# EAGLE library part NRF51-01 (library lio)
nRF51822 40-pin module http://item.taobao.com/item.htm?spm=a1z09.2.9.34.wwrp4G&id=44210242098&_u=8511fe9f467
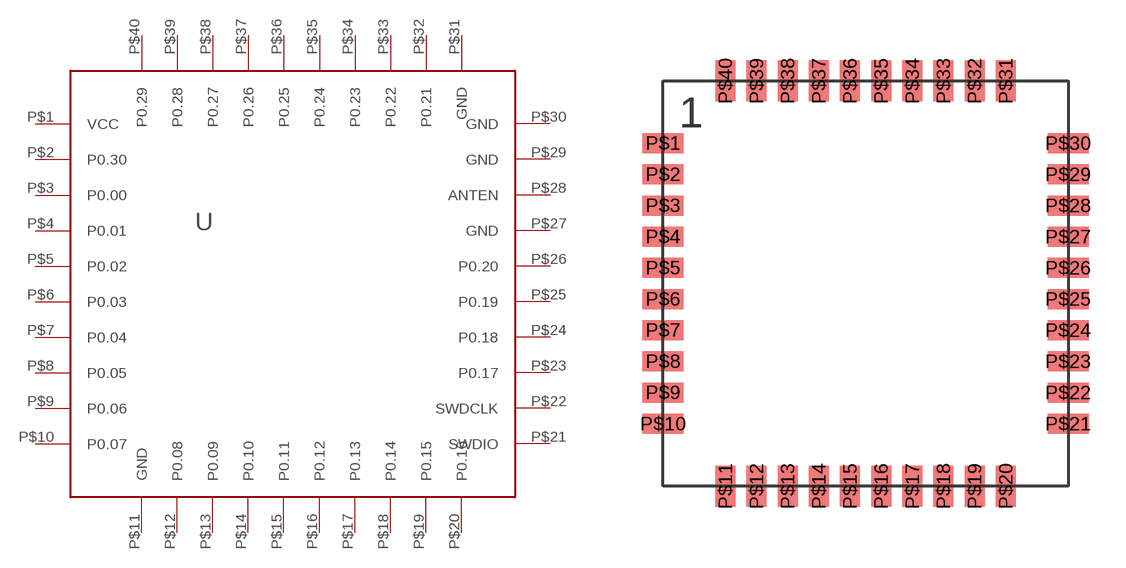
[diagram p11: symbol with the pads of QFN40; footprint QFN40]

Designator prefix -

## NRF51-01  [QFN40]
P$1  VCC  pwr
P$2  P0.30
P$3  P0.00
P$4  P0.01
P$5  P0.02
P$6  P0.03
P$7  P0.04
P$8  P0.05
P$9  P0.06
P$10  P0.07
P$11  GND  pwr
P$12  P0.08
P$13  P0.09
P$14  P0.10
P$15  P0.11
P$16  P0.12
P$17  P0.13
P$18  P0.14
P$19  P0.15
P$20  P0.16
P$21  SWDIO
P$22  SWDCLK
P$23  P0.17
P$24  P0.18
P$25  P0.19
P$26  P0.20
P$27  GND  pwr
P$28  ANTEN
P$29  GND  pwr
P$30  GND  pwr
P$31  GND  pwr
P$32  P0.21
P$33  P0.22
P$34  P0.23
P$35  P0.24
P$36  P0.25
P$37  P0.26
P$38  P0.27
P$39  P0.28
P$40  P0.29

## Footprint QFN40 (pad centres in mm)
smd 1.676 x 0.813: P$1 -8.255,5.715; P$2 -8.255,4.445; P$3 -8.255,3.175; P$4 -8.255,1.905; P$5 -8.255,0.635; P$6 -8.255,-0.635; P$7 -8.255,-1.905; P$8 -8.255,-3.175; P$9 -8.255,-4.445; P$10 -8.255,-5.715; P$21 8.255,-5.715; P$22 8.255,-4.445; P$23 8.255,-3.175; P$24 8.255,-1.905; P$25 8.255,-0.635; P$26 8.255,0.635; P$27 8.255,1.905; P$28 8.255,3.175; P$29 8.255,4.445; P$30 8.255,5.715
smd 0.813 x 1.676: P$11 -5.715,-8.255; P$12 -4.445,-8.255; P$13 -3.175,-8.255; P$14 -1.905,-8.255; P$15 -0.635,-8.255; P$16 0.635,-8.255; P$17 1.905,-8.255; P$18 3.175,-8.255; P$19 4.445,-8.255; P$20 5.715,-8.255; P$31 5.715,8.255; P$32 4.445,8.255; P$33 3.175,8.255; P$34 1.905,8.255; P$35 0.635,8.255; P$36 -0.635,8.255; P$37 -1.905,8.255; P$38 -3.175,8.255; P$39 -4.445,8.255; P$40 -5.715,8.255